# Altium footprint library testpad.PCBLIB: 38 footprints (part 2 of 3)
Each footprint in its own frame and in the unit in brackets; x right, y up, seen from the top. Pads: shape width x height; smd on the part's side, far side on the other; paste and mask are expansions set on the pad; w line width, h text height; cw(c..) or ccw(c..) is an arc to the next point about the centre after c.
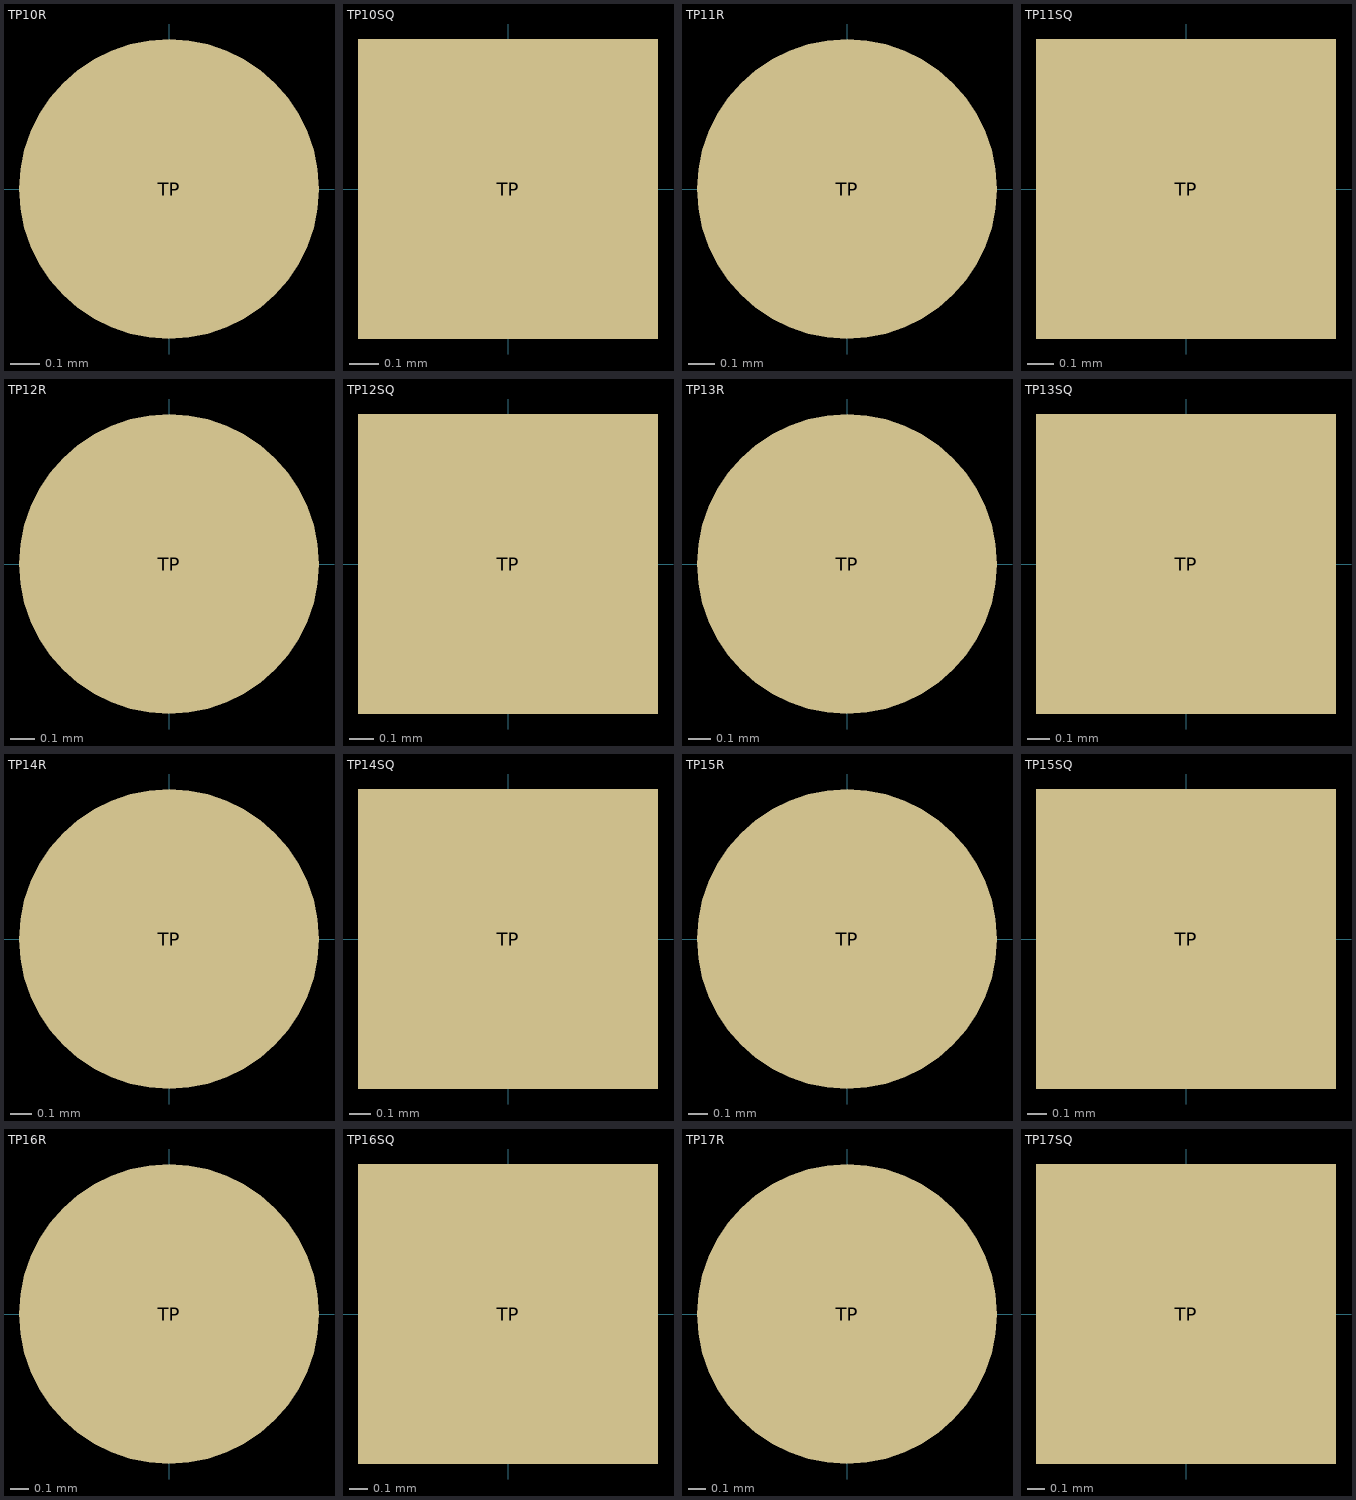
[diagram p1: the footprints below, top view; thin cyan lines are the x and y axes]

## TP10R [mil]
pads (1):
  rrect100% 40x40 smd: TP(0,0)
Mech33:
  text ">TP_SIGNAL_NAME" at 0,-75 h62

## TP10SQ [mil]
pads (1):
  rect 40x40 smd: TP(0,0)
Mech33:
  text ">TP_SIGNAL_NAME" at 0,-75 h62

## TP11R [mil]
pads (1):
  rrect100% 44x44 smd: TP(0,0)
Mech33:
  text ">TP_SIGNAL_NAME" at 0,-75 h62

## TP11SQ [mil]
pads (1):
  rect 44x44 smd: TP(0,0)
Mech33:
  text ">TP_SIGNAL_NAME" at 0,-100 h62

## TP12R [mil]
pads (1):
  rrect100% 48x48 smd: TP(0,0)
Mech33:
  text ">TP_SIGNAL_NAME" at 0,-100 h62

## TP12SQ [mil]
pads (1):
  rect 48x48 smd: TP(0,0)
Mech33:
  text ">TP_SIGNAL_NAME" at 0,-100 h62

## TP13R [mil]
pads (1):
  rrect100% 52x52 smd: TP(0,0)
Mech33:
  text ">TP_SIGNAL_NAME" at 0,-100 h62

## TP13SQ [mil]
pads (1):
  rect 52x52 smd: TP(0,0)
Mech33:
  text ">TP_SIGNAL_NAME" at 0,-100 h62

## TP14R [mil]
pads (1):
  rrect100% 56x56 smd: TP(0,0)
Mech33:
  text ">TP_SIGNAL_NAME" at 0,-100 h62

## TP14SQ [mil]
pads (1):
  rect 56x56 smd: TP(0,0)
Mech33:
  text ">TP_SIGNAL_NAME" at 0,-100 h62

## TP15R [mil]
pads (1):
  rrect100% 60x60 smd: TP(0,0)
Mech33:
  text ">TP_SIGNAL_NAME" at 0,-100 h62

## TP15SQ [mil]
pads (1):
  rect 60x60 smd: TP(0,0)
Mech33:
  text ">TP_SIGNAL_NAME" at 0,-100 h62

## TP16R [mil]
pads (1):
  rrect100% 63x63 smd: TP(0,0)
Mech33:
  text ">TP_SIGNAL_NAME" at 0,-100 h62

## TP16SQ [mil]
pads (1):
  rect 63x63 smd: TP(0,0)
Mech33:
  text ">TP_SIGNAL_NAME" at 0,-100 h62

## TP17R [mil]
pads (1):
  rrect100% 67x67 smd: TP(0,0)
Mech33:
  text ">TP_SIGNAL_NAME" at 0,-100 h62

## TP17SQ [mil]
pads (1):
  rect 67x67 smd: TP(0,0)
Mech33:
  text ">TP_SIGNAL_NAME" at 0,-100 h62